# Altium footprint library Analog Devices Footprints.PcbLib: 248 footprints (part 13 of 16)
Each footprint in its own frame and in the unit in brackets; x right, y up, seen from the top. Pads: shape width x height; smd on the part's side, far side on the other; paste and mask are expansions set on the pad; w line width, h text height; cw(c..) or ccw(c..) is an arc to the next point about the centre after c.
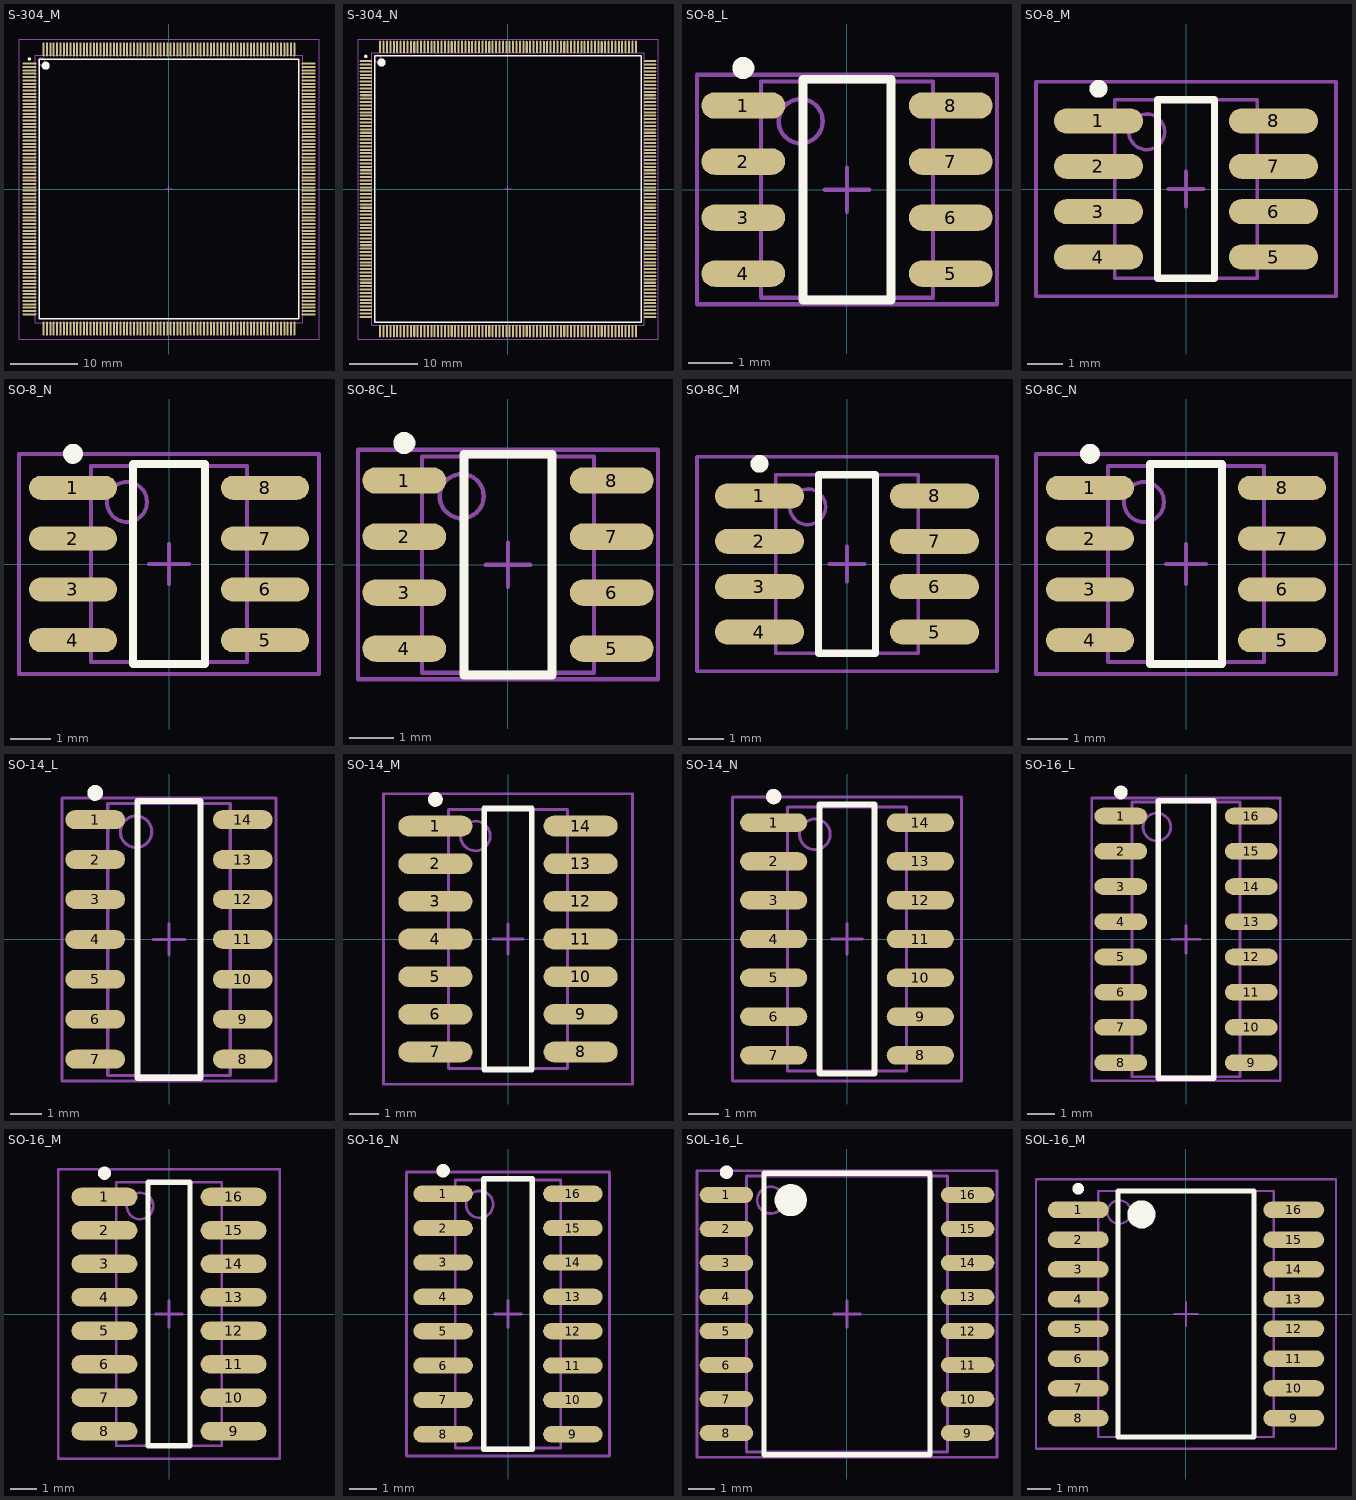
[diagram p12: the footprints below, top view; thin cyan lines are the x and y axes]

## S-304_M [mm] "304-Pin Plastic Shrink Quad Flat Pack 0.5 mm Pitch, IPC Low Density"
height 4.5
pads (304):
  oval 2.1x0.3 smd: 1(-20.9,18.75) 2(-20.9,18.25) 3(-20.9,17.75) 4(-20.9,17.25) 5(-20.9,16.75) 6(-20.9,16.25) 7(-20.9,15.75) 8(-20.9,15.25) 9(-20.9,14.75) 10(-20.9,14.25) 11(-20.9,13.75) 12(-20.9,13.25) 13(-20.9,12.75) 14(-20.9,12.25) 15(-20.9,11.75) 16(-20.9,11.25) 17(-20.9,10.75) 18(-20.9,10.25) 19(-20.9,9.75) 20(-20.9,9.25) 21(-20.9,8.75) 22(-20.9,8.25) 23(-20.9,7.75) 24(-20.9,7.25) 25(-20.9,6.75) 26(-20.9,6.25) 27(-20.9,5.75) 28(-20.9,5.25) 29(-20.9,4.75) 30(-20.9,4.25) 31(-20.9,3.75) 32(-20.9,3.25) 33(-20.9,2.75) 34(-20.9,2.25) 35(-20.9,1.75) 36(-20.9,1.25) 37(-20.9,0.75) 38(-20.9,0.25) 39(-20.9,-0.25) 40(-20.9,-0.75) 41(-20.9,-1.25) 42(-20.9,-1.75) 43(-20.9,-2.25) 44(-20.9,-2.75) 45(-20.9,-3.25) 46(-20.9,-3.75) 47(-20.9,-4.25) 48(-20.9,-4.75) 49(-20.9,-5.25) 50(-20.9,-5.75) 51(-20.9,-6.25) 52(-20.9,-6.75) 53(-20.9,-7.25) 54(-20.9,-7.75) 55(-20.9,-8.25) 56(-20.9,-8.75) 57(-20.9,-9.25) 58(-20.9,-9.75) 59(-20.9,-10.25) 60(-20.9,-10.75) 61(-20.9,-11.25) 62(-20.9,-11.75) 63(-20.9,-12.25) 64(-20.9,-12.75) 65(-20.9,-13.25) 66(-20.9,-13.75) 67(-20.9,-14.25) 68(-20.9,-14.75) 69(-20.9,-15.25) 70(-20.9,-15.75) 71(-20.9,-16.25) 72(-20.9,-16.75) 73(-20.9,-17.25) 74(-20.9,-17.75) 75(-20.9,-18.25) 76(-20.9,-18.75) 153(20.9,-18.75) 154(20.9,-18.25) 155(20.9,-17.75) 156(20.9,-17.25) 157(20.9,-16.75) 158(20.9,-16.25) 159(20.9,-15.75) 160(20.9,-15.25) 161(20.9,-14.75) 162(20.9,-14.25) 163(20.9,-13.75) 164(20.9,-13.25) 165(20.9,-12.75) 166(20.9,-12.25) 167(20.9,-11.75) 168(20.9,-11.25) 169(20.9,-10.75) 170(20.9,-10.25) 171(20.9,-9.75) 172(20.9,-9.25) 173(20.9,-8.75) 174(20.9,-8.25) 175(20.9,-7.75) 176(20.9,-7.25) 177(20.9,-6.75) 178(20.9,-6.25) 179(20.9,-5.75) 180(20.9,-5.25) 181(20.9,-4.75) 182(20.9,-4.25) 183(20.9,-3.75) 184(20.9,-3.25) 185(20.9,-2.75) 186(20.9,-2.25) 187(20.9,-1.75) 188(20.9,-1.25) 189(20.9,-0.75) 190(20.9,-0.25) 191(20.9,0.25) 192(20.9,0.75) 193(20.9,1.25) 194(20.9,1.75) 195(20.9,2.25) 196(20.9,2.75) 197(20.9,3.25) 198(20.9,3.75) 199(20.9,4.25) 200(20.9,4.75) 201(20.9,5.25) 202(20.9,5.75) 203(20.9,6.25) 204(20.9,6.75) 205(20.9,7.25) 206(20.9,7.75) 207(20.9,8.25) 208(20.9,8.75) 209(20.9,9.25) 210(20.9,9.75) 211(20.9,10.25) 212(20.9,10.75) 213(20.9,11.25) 214(20.9,11.75) 215(20.9,12.25) 216(20.9,12.75) 217(20.9,13.25) 218(20.9,13.75) 219(20.9,14.25) 220(20.9,14.75) 221(20.9,15.25) 222(20.9,15.75) 223(20.9,16.25) 224(20.9,16.75) 225(20.9,17.25) 226(20.9,17.75) 227(20.9,18.25) 228(20.9,18.75)
  oval 0.3x2.1 smd: 77(-18.75,-20.9) 78(-18.25,-20.9) 79(-17.75,-20.9) 80(-17.25,-20.9) 81(-16.75,-20.9) 82(-16.25,-20.9) 83(-15.75,-20.9) 84(-15.25,-20.9) 85(-14.75,-20.9) 86(-14.25,-20.9) 87(-13.75,-20.9) 88(-13.25,-20.9) 89(-12.75,-20.9) 90(-12.25,-20.9) 91(-11.75,-20.9) 92(-11.25,-20.9) 93(-10.75,-20.9) 94(-10.25,-20.9) 95(-9.75,-20.9) 96(-9.25,-20.9) 97(-8.75,-20.9) 98(-8.25,-20.9) 99(-7.75,-20.9) 100(-7.25,-20.9) 101(-6.75,-20.9) 102(-6.25,-20.9) 103(-5.75,-20.9) 104(-5.25,-20.9) 105(-4.75,-20.9) 106(-4.25,-20.9) 107(-3.75,-20.9) 108(-3.25,-20.9) 109(-2.75,-20.9) 110(-2.25,-20.9) 111(-1.75,-20.9) 112(-1.25,-20.9) 113(-0.75,-20.9) 114(-0.25,-20.9) 115(0.25,-20.9) 116(0.75,-20.9) 117(1.25,-20.9) 118(1.75,-20.9) 119(2.25,-20.9) 120(2.75,-20.9) 121(3.25,-20.9) 122(3.75,-20.9) 123(4.25,-20.9) 124(4.75,-20.9) 125(5.25,-20.9) 126(5.75,-20.9) 127(6.25,-20.9) 128(6.75,-20.9) 129(7.25,-20.9) 130(7.75,-20.9) 131(8.25,-20.9) 132(8.75,-20.9) 133(9.25,-20.9) 134(9.75,-20.9) 135(10.25,-20.9) 136(10.75,-20.9) 137(11.25,-20.9) 138(11.75,-20.9) 139(12.25,-20.9) 140(12.75,-20.9) 141(13.25,-20.9) 142(13.75,-20.9) 143(14.25,-20.9) 144(14.75,-20.9) 145(15.25,-20.9) 146(15.75,-20.9) 147(16.25,-20.9) 148(16.75,-20.9) 149(17.25,-20.9) 150(17.75,-20.9) 151(18.25,-20.9) 152(18.75,-20.9) 229(18.75,20.9) 230(18.25,20.9) 231(17.75,20.9) 232(17.25,20.9) 233(16.75,20.9) 234(16.25,20.9) 235(15.75,20.9) 236(15.25,20.9) 237(14.75,20.9) 238(14.25,20.9) 239(13.75,20.9) 240(13.25,20.9) 241(12.75,20.9) 242(12.25,20.9) 243(11.75,20.9) 244(11.25,20.9) 245(10.75,20.9) 246(10.25,20.9) 247(9.75,20.9) 248(9.25,20.9) 249(8.75,20.9) 250(8.25,20.9) 251(7.75,20.9) 252(7.25,20.9) 253(6.75,20.9) 254(6.25,20.9) 255(5.75,20.9) 256(5.25,20.9) 257(4.75,20.9) 258(4.25,20.9) 259(3.75,20.9) 260(3.25,20.9) 261(2.75,20.9) 262(2.25,20.9) 263(1.75,20.9) 264(1.25,20.9) 265(0.75,20.9) 266(0.25,20.9) 267(-0.25,20.9) 268(-0.75,20.9) 269(-1.25,20.9) 270(-1.75,20.9) 271(-2.25,20.9) 272(-2.75,20.9) 273(-3.25,20.9) 274(-3.75,20.9) 275(-4.25,20.9) 276(-4.75,20.9) 277(-5.25,20.9) 278(-5.75,20.9) 279(-6.25,20.9) 280(-6.75,20.9) 281(-7.25,20.9) 282(-7.75,20.9) 283(-8.25,20.9) 284(-8.75,20.9) 285(-9.25,20.9) 286(-9.75,20.9) 287(-10.25,20.9) 288(-10.75,20.9) 289(-11.25,20.9) 290(-11.75,20.9) 291(-12.25,20.9) 292(-12.75,20.9) 293(-13.25,20.9) 294(-13.75,20.9) 295(-14.25,20.9) 296(-14.75,20.9) 297(-15.25,20.9) 298(-15.75,20.9) 299(-16.25,20.9) 300(-16.75,20.9) 301(-17.25,20.9) 302(-17.75,20.9) 303(-18.25,20.9) 304(-18.75,20.9)
Top Overlay:
  circle w0.6: c-18.45,18.45 r0.3
  circle w0.25: c-20.9,19.45 r0.125
  lines w0.2: -19.45,-19.45 19.45,-19.45 19.45,19.45 -19.45,19.45 -19.45,-19.45
Mechanical 13:
  circle w0.1: c-19.1,19.1 r0.5
  lines w0.1: -20,-20 20,-20 20,20 -20,20 -20,-20
Mechanical 15:
  lines w0.1: -0.5,0 0.5,0 ; 0,-0.5 0,0.5 ; -22.45,-22.45 22.45,-22.45 22.45,22.45 -22.45,22.45 -22.45,-22.45
3D body: height 4.5, standoff 0, extent -20,-20 20,20

## S-304_N [mm] "304-Pin Plastic Shrink Quad Flat Pack 0.5 mm Pitch, IPC Medium Density"
height 4.5
pads (304):
  oval 1.8x0.3 smd: 1(-20.85,18.75) 2(-20.85,18.25) 3(-20.85,17.75) 4(-20.85,17.25) 5(-20.85,16.75) 6(-20.85,16.25) 7(-20.85,15.75) 8(-20.85,15.25) 9(-20.85,14.75) 10(-20.85,14.25) 11(-20.85,13.75) 12(-20.85,13.25) 13(-20.85,12.75) 14(-20.85,12.25) 15(-20.85,11.75) 16(-20.85,11.25) 17(-20.85,10.75) 18(-20.85,10.25) 19(-20.85,9.75) 20(-20.85,9.25) 21(-20.85,8.75) 22(-20.85,8.25) 23(-20.85,7.75) 24(-20.85,7.25) 25(-20.85,6.75) 26(-20.85,6.25) 27(-20.85,5.75) 28(-20.85,5.25) 29(-20.85,4.75) 30(-20.85,4.25) 31(-20.85,3.75) 32(-20.85,3.25) 33(-20.85,2.75) 34(-20.85,2.25) 35(-20.85,1.75) 36(-20.85,1.25) 37(-20.85,0.75) 38(-20.85,0.25) 39(-20.85,-0.25) 40(-20.85,-0.75) 41(-20.85,-1.25) 42(-20.85,-1.75) 43(-20.85,-2.25) 44(-20.85,-2.75) 45(-20.85,-3.25) 46(-20.85,-3.75) 47(-20.85,-4.25) 48(-20.85,-4.75) 49(-20.85,-5.25) 50(-20.85,-5.75) 51(-20.85,-6.25) 52(-20.85,-6.75) 53(-20.85,-7.25) 54(-20.85,-7.75) 55(-20.85,-8.25) 56(-20.85,-8.75) 57(-20.85,-9.25) 58(-20.85,-9.75) 59(-20.85,-10.25) 60(-20.85,-10.75) 61(-20.85,-11.25) 62(-20.85,-11.75) 63(-20.85,-12.25) 64(-20.85,-12.75) 65(-20.85,-13.25) 66(-20.85,-13.75) 67(-20.85,-14.25) 68(-20.85,-14.75) 69(-20.85,-15.25) 70(-20.85,-15.75) 71(-20.85,-16.25) 72(-20.85,-16.75) 73(-20.85,-17.25) 74(-20.85,-17.75) 75(-20.85,-18.25) 76(-20.85,-18.75) 153(20.85,-18.75) 154(20.85,-18.25) 155(20.85,-17.75) 156(20.85,-17.25) 157(20.85,-16.75) 158(20.85,-16.25) 159(20.85,-15.75) 160(20.85,-15.25) 161(20.85,-14.75) 162(20.85,-14.25) 163(20.85,-13.75) 164(20.85,-13.25) 165(20.85,-12.75) 166(20.85,-12.25) 167(20.85,-11.75) 168(20.85,-11.25) 169(20.85,-10.75) 170(20.85,-10.25) 171(20.85,-9.75) 172(20.85,-9.25) 173(20.85,-8.75) 174(20.85,-8.25) 175(20.85,-7.75) 176(20.85,-7.25) 177(20.85,-6.75) 178(20.85,-6.25) 179(20.85,-5.75) 180(20.85,-5.25) 181(20.85,-4.75) 182(20.85,-4.25) 183(20.85,-3.75) 184(20.85,-3.25) 185(20.85,-2.75) 186(20.85,-2.25) 187(20.85,-1.75) 188(20.85,-1.25) 189(20.85,-0.75) 190(20.85,-0.25) 191(20.85,0.25) 192(20.85,0.75) 193(20.85,1.25) 194(20.85,1.75) 195(20.85,2.25) 196(20.85,2.75) 197(20.85,3.25) 198(20.85,3.75) 199(20.85,4.25) 200(20.85,4.75) 201(20.85,5.25) 202(20.85,5.75) 203(20.85,6.25) 204(20.85,6.75) 205(20.85,7.25) 206(20.85,7.75) 207(20.85,8.25) 208(20.85,8.75) 209(20.85,9.25) 210(20.85,9.75) 211(20.85,10.25) 212(20.85,10.75) 213(20.85,11.25) 214(20.85,11.75) 215(20.85,12.25) 216(20.85,12.75) 217(20.85,13.25) 218(20.85,13.75) 219(20.85,14.25) 220(20.85,14.75) 221(20.85,15.25) 222(20.85,15.75) 223(20.85,16.25) 224(20.85,16.75) 225(20.85,17.25) 226(20.85,17.75) 227(20.85,18.25) 228(20.85,18.75)
  oval 0.3x1.8 smd: 77(-18.75,-20.85) 78(-18.25,-20.85) 79(-17.75,-20.85) 80(-17.25,-20.85) 81(-16.75,-20.85) 82(-16.25,-20.85) 83(-15.75,-20.85) 84(-15.25,-20.85) 85(-14.75,-20.85) 86(-14.25,-20.85) 87(-13.75,-20.85) 88(-13.25,-20.85) 89(-12.75,-20.85) 90(-12.25,-20.85) 91(-11.75,-20.85) 92(-11.25,-20.85) 93(-10.75,-20.85) 94(-10.25,-20.85) 95(-9.75,-20.85) 96(-9.25,-20.85) 97(-8.75,-20.85) 98(-8.25,-20.85) 99(-7.75,-20.85) 100(-7.25,-20.85) 101(-6.75,-20.85) 102(-6.25,-20.85) 103(-5.75,-20.85) 104(-5.25,-20.85) 105(-4.75,-20.85) 106(-4.25,-20.85) 107(-3.75,-20.85) 108(-3.25,-20.85) 109(-2.75,-20.85) 110(-2.25,-20.85) 111(-1.75,-20.85) 112(-1.25,-20.85) 113(-0.75,-20.85) 114(-0.25,-20.85) 115(0.25,-20.85) 116(0.75,-20.85) 117(1.25,-20.85) 118(1.75,-20.85) 119(2.25,-20.85) 120(2.75,-20.85) 121(3.25,-20.85) 122(3.75,-20.85) 123(4.25,-20.85) 124(4.75,-20.85) 125(5.25,-20.85) 126(5.75,-20.85) 127(6.25,-20.85) 128(6.75,-20.85) 129(7.25,-20.85) 130(7.75,-20.85) 131(8.25,-20.85) 132(8.75,-20.85) 133(9.25,-20.85) 134(9.75,-20.85) 135(10.25,-20.85) 136(10.75,-20.85) 137(11.25,-20.85) 138(11.75,-20.85) 139(12.25,-20.85) 140(12.75,-20.85) 141(13.25,-20.85) 142(13.75,-20.85) 143(14.25,-20.85) 144(14.75,-20.85) 145(15.25,-20.85) 146(15.75,-20.85) 147(16.25,-20.85) 148(16.75,-20.85) 149(17.25,-20.85) 150(17.75,-20.85) 151(18.25,-20.85) 152(18.75,-20.85) 229(18.75,20.85) 230(18.25,20.85) 231(17.75,20.85) 232(17.25,20.85) 233(16.75,20.85) 234(16.25,20.85) 235(15.75,20.85) 236(15.25,20.85) 237(14.75,20.85) 238(14.25,20.85) 239(13.75,20.85) 240(13.25,20.85) 241(12.75,20.85) 242(12.25,20.85) 243(11.75,20.85) 244(11.25,20.85) 245(10.75,20.85) 246(10.25,20.85) 247(9.75,20.85) 248(9.25,20.85) 249(8.75,20.85) 250(8.25,20.85) 251(7.75,20.85) 252(7.25,20.85) 253(6.75,20.85) 254(6.25,20.85) 255(5.75,20.85) 256(5.25,20.85) 257(4.75,20.85) 258(4.25,20.85) 259(3.75,20.85) 260(3.25,20.85) 261(2.75,20.85) 262(2.25,20.85) 263(1.75,20.85) 264(1.25,20.85) 265(0.75,20.85) 266(0.25,20.85) 267(-0.25,20.85) 268(-0.75,20.85) 269(-1.25,20.85) 270(-1.75,20.85) 271(-2.25,20.85) 272(-2.75,20.85) 273(-3.25,20.85) 274(-3.75,20.85) 275(-4.25,20.85) 276(-4.75,20.85) 277(-5.25,20.85) 278(-5.75,20.85) 279(-6.25,20.85) 280(-6.75,20.85) 281(-7.25,20.85) 282(-7.75,20.85) 283(-8.25,20.85) 284(-8.75,20.85) 285(-9.25,20.85) 286(-9.75,20.85) 287(-10.25,20.85) 288(-10.75,20.85) 289(-11.25,20.85) 290(-11.75,20.85) 291(-12.25,20.85) 292(-12.75,20.85) 293(-13.25,20.85) 294(-13.75,20.85) 295(-14.25,20.85) 296(-14.75,20.85) 297(-15.25,20.85) 298(-15.75,20.85) 299(-16.25,20.85) 300(-16.75,20.85) 301(-17.25,20.85) 302(-17.75,20.85) 303(-18.25,20.85) 304(-18.75,20.85)
Top Overlay:
  circle w0.6: c-18.55,18.55 r0.3
  circle w0.25: c-20.85,19.45 r0.125
  lines w0.2: -19.55,-19.55 19.55,-19.55 19.55,19.55 -19.55,19.55 -19.55,-19.55
Mechanical 13:
  circle w0.1: c-19.1,19.1 r0.5
  lines w0.1: -20,-20 20,-20 20,20 -20,20 -20,-20
Mechanical 15:
  lines w0.1: -0.5,0 0.5,0 ; 0,-0.5 0,0.5 ; -22,-22 22,-22 22,22 -22,22 -22,-22
3D body: height 4.5, standoff 0, extent -20,-20 20,20

## SO-8_L [mm] "8-Pin Small Outline Integrated Circuit 1.27 mm Pitch, IPC High Density"
height 1.75
pads (8):
  oval 1.9x0.6 smd: 1(-2.35,1.905) 2(-2.35,0.635) 3(-2.35,-0.635) 4(-2.35,-1.905) 5(2.35,-1.905) 6(2.35,-0.635) 7(2.35,0.635) 8(2.35,1.905)
Top Overlay:
  circle w0.25: c-2.35,2.755 r0.125
  lines w0.2: -1,-2.5 1,-2.5 1,2.5 -1,2.5 -1,-2.5
Mechanical 13:
  circle w0.1: c-1.05,1.55 r0.5
  lines w0.1: -1.95,-2.45 1.95,-2.45 1.95,2.45 -1.95,2.45 -1.95,-2.45
Mechanical 15:
  lines w0.1: -0.5,0 0.5,0 ; 0,-0.5 0,0.5 ; -3.4,-2.6 3.4,-2.6 3.4,2.6 -3.4,2.6 -3.4,-2.6
3D body: height 1.75, standoff 0, extent -1.95,-2.45 1.95,2.45

## SO-8_M [mm] "8-Pin Small Outline Integrated Circuit 1.27 mm Pitch, IPC Low Density"
height 1.75
pads (8):
  oval 2.5x0.7 smd: 1(-2.45,1.905) 2(-2.45,0.635) 3(-2.45,-0.635) 4(-2.45,-1.905) 5(2.45,-1.905) 6(2.45,-0.635) 7(2.45,0.635) 8(2.45,1.905)
Top Overlay:
  circle w0.25: c-2.45,2.805 r0.125
  lines w0.2: -0.8,-2.5 -0.8,2.5 0.8,2.5 0.8,-2.5 -0.8,-2.5
Mechanical 13:
  circle w0.1: c-1.1,1.6 r0.5
  lines w0.1: -2,-2.5 -2,2.5 2,2.5 2,-2.5 -2,-2.5
Mechanical 15:
  lines w0.1: -0.5,0 0.5,0 ; 0,-0.5 0,0.5 ; -4.2,-3 -4.2,3 4.2,3 4.2,-3 -4.2,-3
3D body: height 1.75, standoff 0, extent -2,-2.5 2,2.5

## SO-8_N [mm] "8-Pin Small Outline Integrated Circuit 1.27 mm Pitch, IPC Medium Density"
height 1.75
pads (8):
  oval 2.2x0.6 smd: 1(-2.4,1.905) 2(-2.4,0.635) 3(-2.4,-0.635) 4(-2.4,-1.905) 5(2.4,-1.905) 6(2.4,-0.635) 7(2.4,0.635) 8(2.4,1.905)
Top Overlay:
  circle w0.25: c-2.4,2.755 r0.125
  lines w0.2: -0.9,-2.5 -0.9,2.5 0.9,2.5 0.9,-2.5 -0.9,-2.5
Mechanical 13:
  circle w0.1: c-1.05,1.55 r0.5
  lines w0.1: -1.95,-2.45 -1.95,2.45 1.95,2.45 1.95,-2.45 -1.95,-2.45
Mechanical 15:
  lines w0.1: -0.5,0 0.5,0 ; 0,-0.5 0,0.5 ; -3.75,-2.75 -3.75,2.75 3.75,2.75 3.75,-2.75 -3.75,-2.75
3D body: height 1.75, standoff 0, extent -1.95,-2.45 1.95,2.45

## SO-8C_L [mm] "8-Pin Small Outline Integrated Circuit 1.27 mm Pitch, IPC High Density"
height 1.75
pads (8):
  oval 1.9x0.6 smd: 1(-2.35,1.905) 2(-2.35,0.635) 3(-2.35,-0.635) 4(-2.35,-1.905) 5(2.35,-1.905) 6(2.35,-0.635) 7(2.35,0.635) 8(2.35,1.905)
Top Overlay:
  circle w0.25: c-2.35,2.755 r0.125
  lines w0.2: -1,-2.5 1,-2.5 1,2.5 -1,2.5 -1,-2.5
Mechanical 13:
  circle w0.1: c-1.05,1.55 r0.5
  lines w0.1: -1.95,-2.45 1.95,-2.45 1.95,2.45 -1.95,2.45 -1.95,-2.45
Mechanical 15:
  lines w0.1: -0.5,0 0.5,0 ; 0,-0.5 0,0.5 ; -3.4,-2.6 3.4,-2.6 3.4,2.6 -3.4,2.6 -3.4,-2.6
3D body: height 1.75, standoff 0, extent -1.95,-2.45 1.95,2.45

## SO-8C_M [mm] "8-Pin Small Outline Integrated Circuit 1.27 mm Pitch, IPC Low Density"
height 1.75
pads (8):
  oval 2.5x0.7 smd: 1(-2.45,1.905) 2(-2.45,0.635) 3(-2.45,-0.635) 4(-2.45,-1.905) 5(2.45,-1.905) 6(2.45,-0.635) 7(2.45,0.635) 8(2.45,1.905)
Top Overlay:
  circle w0.25: c-2.45,2.805 r0.125
  lines w0.2: -0.8,-2.5 -0.8,2.5 0.8,2.5 0.8,-2.5 -0.8,-2.5
Mechanical 13:
  circle w0.1: c-1.1,1.6 r0.5
  lines w0.1: -2,-2.5 -2,2.5 2,2.5 2,-2.5 -2,-2.5
Mechanical 15:
  lines w0.1: -0.5,0 0.5,0 ; 0,-0.5 0,0.5 ; -4.2,-3 -4.2,3 4.2,3 4.2,-3 -4.2,-3
3D body: height 1.75, standoff 0, extent -2,-2.5 2,2.5

## SO-8C_N [mm] "8-Pin Small Outline Integrated Circuit 1.27 mm Pitch, IPC Medium Density"
height 1.75
pads (8):
  oval 2.2x0.6 smd: 1(-2.4,1.905) 2(-2.4,0.635) 3(-2.4,-0.635) 4(-2.4,-1.905) 5(2.4,-1.905) 6(2.4,-0.635) 7(2.4,0.635) 8(2.4,1.905)
Top Overlay:
  circle w0.25: c-2.4,2.755 r0.125
  lines w0.2: -0.9,-2.5 -0.9,2.5 0.9,2.5 0.9,-2.5 -0.9,-2.5
Mechanical 13:
  circle w0.1: c-1.05,1.55 r0.5
  lines w0.1: -1.95,-2.45 -1.95,2.45 1.95,2.45 1.95,-2.45 -1.95,-2.45
Mechanical 15:
  lines w0.1: -0.5,0 0.5,0 ; 0,-0.5 0,0.5 ; -3.75,-2.75 -3.75,2.75 3.75,2.75 3.75,-2.75 -3.75,-2.75
3D body: height 1.75, standoff 0, extent -1.95,-2.45 1.95,2.45

## SO-14_L [mm] "14-Pin Small Outline Integrated Circuit 1.27 mm Pitch, IPC High Density"
height 1.75
pads (14):
  oval 1.9x0.6 smd: 1(-2.35,3.81) 2(-2.35,2.54) 3(-2.35,1.27) 4(-2.35,0) 5(-2.35,-1.27) 6(-2.35,-2.54) 7(-2.35,-3.81) 8(2.35,-3.81) 9(2.35,-2.54) 10(2.35,-1.27) 11(2.35,0) 12(2.35,1.27) 13(2.35,2.54) 14(2.35,3.81)
Top Overlay:
  circle w0.25: c-2.35,4.66 r0.125
  lines w0.2: -1,-4.4 1,-4.4 1,4.4 -1,4.4 -1,-4.4
Mechanical 13:
  circle w0.1: c-1.05,3.425 r0.5
  lines w0.1: -1.95,-4.325 1.95,-4.325 1.95,4.325 -1.95,4.325 -1.95,-4.325
Mechanical 15:
  lines w0.1: -0.5,0 0.5,0 ; 0,-0.5 0,0.5 ; -3.4,-4.5 3.4,-4.5 3.4,4.5 -3.4,4.5 -3.4,-4.5
3D body: height 1.75, standoff 0, extent -1.95,-4.325 1.95,4.325

## SO-14_M [mm] "14-Pin Small Outline Integrated Circuit 1.27 mm Pitch, IPC Low Density"
height 1.75
pads (14):
  oval 2.5x0.7 smd: 1(-2.45,3.81) 2(-2.45,2.54) 3(-2.45,1.27) 4(-2.45,0) 5(-2.45,-1.27) 6(-2.45,-2.54) 7(-2.45,-3.81) 8(2.45,-3.81) 9(2.45,-2.54) 10(2.45,-1.27) 11(2.45,0) 12(2.45,1.27) 13(2.45,2.54) 14(2.45,3.81)
Top Overlay:
  circle w0.25: c-2.45,4.71 r0.125
  lines w0.2: -0.8,-4.4 -0.8,4.4 0.8,4.4 0.8,-4.4 -0.8,-4.4
Mechanical 13:
  circle w0.1: c-1.1,3.475 r0.5
  lines w0.1: -2,-4.375 -2,4.375 2,4.375 2,-4.375 -2,-4.375
Mechanical 15:
  lines w0.1: -0.5,0 0.5,0 ; 0,-0.5 0,0.5 ; -4.2,-4.9 -4.2,4.9 4.2,4.9 4.2,-4.9 -4.2,-4.9
3D body: height 1.75, standoff 0, extent -2,-4.375 2,4.375

## SO-14_N [mm] "14-Pin Small Outline Integrated Circuit 1.27 mm Pitch, IPC Medium Density"
height 1.75
pads (14):
  oval 2.2x0.6 smd: 1(-2.4,3.81) 2(-2.4,2.54) 3(-2.4,1.27) 4(-2.4,0) 5(-2.4,-1.27) 6(-2.4,-2.54) 7(-2.4,-3.81) 8(2.4,-3.81) 9(2.4,-2.54) 10(2.4,-1.27) 11(2.4,0) 12(2.4,1.27) 13(2.4,2.54) 14(2.4,3.81)
Top Overlay:
  circle w0.25: c-2.4,4.66 r0.125
  lines w0.2: -0.9,-4.4 -0.9,4.4 0.9,4.4 0.9,-4.4 -0.9,-4.4
Mechanical 13:
  circle w0.1: c-1.05,3.425 r0.5
  lines w0.1: -1.95,-4.325 -1.95,4.325 1.95,4.325 1.95,-4.325 -1.95,-4.325
Mechanical 15:
  lines w0.1: -0.5,0 0.5,0 ; 0,-0.5 0,0.5 ; -3.75,-4.65 -3.75,4.65 3.75,4.65 3.75,-4.65 -3.75,-4.65
3D body: height 1.75, standoff 0, extent -1.95,-4.325 1.95,4.325

## SO-16_L [mm] "16-Pin Small Outline Integrated Circuit 1.27 mm Pitch, IPC High Density"
height 1.75
pads (16):
  oval 1.9x0.6 smd: 1(-2.35,4.445) 2(-2.35,3.175) 3(-2.35,1.905) 4(-2.35,0.635) 5(-2.35,-0.635) 6(-2.35,-1.905) 7(-2.35,-3.175) 8(-2.35,-4.445) 9(2.35,-4.445) 10(2.35,-3.175) 11(2.35,-1.905) 12(2.35,-0.635) 13(2.35,0.635) 14(2.35,1.905) 15(2.35,3.175) 16(2.35,4.445)
Top Overlay:
  circle w0.25: c-2.35,5.295 r0.125
  lines w0.2: -1,-5 1,-5 1,5 -1,5 -1,-5
Mechanical 13:
  circle w0.1: c-1.05,4.05 r0.5
  lines w0.1: -1.95,-4.95 1.95,-4.95 1.95,4.95 -1.95,4.95 -1.95,-4.95
Mechanical 15:
  lines w0.1: -0.5,0 0.5,0 ; 0,-0.5 0,0.5 ; -3.4,-5.1 3.4,-5.1 3.4,5.1 -3.4,5.1 -3.4,-5.1
3D body: height 1.75, standoff 0, extent -1.95,-4.95 1.95,4.95

## SO-16_M [mm] "16-Pin Small Outline Integrated Circuit 1.27 mm Pitch, IPC Low Density"
height 1.75
pads (16):
  oval 2.5x0.7 smd: 1(-2.45,4.445) 2(-2.45,3.175) 3(-2.45,1.905) 4(-2.45,0.635) 5(-2.45,-0.635) 6(-2.45,-1.905) 7(-2.45,-3.175) 8(-2.45,-4.445) 9(2.45,-4.445) 10(2.45,-3.175) 11(2.45,-1.905) 12(2.45,-0.635) 13(2.45,0.635) 14(2.45,1.905) 15(2.45,3.175) 16(2.45,4.445)
Top Overlay:
  circle w0.25: c-2.45,5.345 r0.125
  lines w0.2: -0.8,-5 0.8,-5 0.8,5 -0.8,5 -0.8,-5
Mechanical 13:
  circle w0.1: c-1.1,4.1 r0.5
  lines w0.1: -2,-5 2,-5 2,5 -2,5 -2,-5
Mechanical 15:
  lines w0.1: -0.5,0 0.5,0 ; 0,-0.5 0,0.5 ; -4.2,-5.5 4.2,-5.5 4.2,5.5 -4.2,5.5 -4.2,-5.5
3D body: height 1.75, standoff 0, extent -2,-5 2,5

## SO-16_N [mm] "16-Pin Small Outline Integrated Circuit 1.27 mm Pitch, IPC Medium Density"
height 1.75
pads (16):
  oval 2.2x0.6 smd: 1(-2.4,4.445) 2(-2.4,3.175) 3(-2.4,1.905) 4(-2.4,0.635) 5(-2.4,-0.635) 6(-2.4,-1.905) 7(-2.4,-3.175) 8(-2.4,-4.445) 9(2.4,-4.445) 10(2.4,-3.175) 11(2.4,-1.905) 12(2.4,-0.635) 13(2.4,0.635) 14(2.4,1.905) 15(2.4,3.175) 16(2.4,4.445)
Top Overlay:
  circle w0.25: c-2.4,5.295 r0.125
  lines w0.2: -0.9,-5 -0.9,5 0.9,5 0.9,-5 -0.9,-5
Mechanical 13:
  circle w0.1: c-1.05,4.05 r0.5
  lines w0.1: -1.95,-4.95 -1.95,4.95 1.95,4.95 1.95,-4.95 -1.95,-4.95
Mechanical 15:
  lines w0.1: -0.5,0 0.5,0 ; 0,-0.5 0,0.5 ; -3.75,-5.25 -3.75,5.25 3.75,5.25 3.75,-5.25 -3.75,-5.25
3D body: height 1.75, standoff 0, extent -1.95,-4.95 1.95,4.95

## SOL-16_L [mm] "16-Pin Small Outline Integrated Circuit 1.27 mm Pitch, IPC High Density"
height 2.65
pads (16):
  oval 2x0.6 smd: 1(-4.5,4.445) 2(-4.5,3.175) 3(-4.5,1.905) 4(-4.5,0.635) 5(-4.5,-0.635) 6(-4.5,-1.905) 7(-4.5,-3.175) 8(-4.5,-4.445) 9(4.5,-4.445) 10(4.5,-3.175) 11(4.5,-1.905) 12(4.5,-0.635) 13(4.5,0.635) 14(4.5,1.905) 15(4.5,3.175) 16(4.5,4.445)
Top Overlay:
  circle w0.25: c-4.5,5.295 r0.125
  circle w0.6: c-2.1,4.25 r0.3
  lines w0.2: -3.1,-5.25 -3.1,5.25 3.1,5.25 3.1,-5.25 -3.1,-5.25
Mechanical 13:
  circle w0.1: c-2.85,4.25 r0.5
  lines w0.1: -3.75,-5.15 -3.75,5.15 3.75,5.15 3.75,-5.15 -3.75,-5.15
Mechanical 15:
  lines w0.1: -0.5,0 0.5,0 ; 0,-0.5 0,0.5 ; -5.6,-5.35 -5.6,5.35 5.6,5.35 5.6,-5.35 -5.6,-5.35
3D body: height 2.65, standoff 0, extent -3.75,-5.15 3.75,5.15

## SOL-16_M [mm] "16-Pin Small Outline Integrated Circuit 1.27 mm Pitch, IPC Low Density"
height 2.65
pads (16):
  oval 2.6x0.7 smd: 1(-4.6,4.445) 2(-4.6,3.175) 3(-4.6,1.905) 4(-4.6,0.635) 5(-4.6,-0.635) 6(-4.6,-1.905) 7(-4.6,-3.175) 8(-4.6,-4.445) 9(4.6,-4.445) 10(4.6,-3.175) 11(4.6,-1.905) 12(4.6,-0.635) 13(4.6,0.635) 14(4.6,1.905) 15(4.6,3.175) 16(4.6,4.445)
Top Overlay:
  circle w0.25: c-4.6,5.345 r0.125
  circle w0.6: c-1.9,4.25 r0.3
  lines w0.2: -2.9,-5.25 -2.9,5.25 2.9,5.25 2.9,-5.25 -2.9,-5.25
Mechanical 13:
  circle w0.1: c-2.85,4.35 r0.5
  lines w0.1: -3.75,-5.25 -3.75,5.25 3.75,5.25 3.75,-5.25 -3.75,-5.25
Mechanical 15:
  lines w0.1: -0.5,0 0.5,0 ; 0,-0.5 0,0.5 ; -6.4,-5.75 -6.4,5.75 6.4,5.75 6.4,-5.75 -6.4,-5.75
3D body: height 2.65, standoff 0, extent -3.75,-5.25 3.75,5.25